# Altium footprint library Smart Humidifier.PcbLib: 30 footprints (part 2 of 2)
Each footprint in its own frame and in the unit in brackets; x right, y up, seen from the top. Pads: shape width x height; smd on the part's side, far side on the other; paste and mask are expansions set on the pad; w line width, h text height; cw(c..) or ccw(c..) is an arc to the next point about the centre after c.
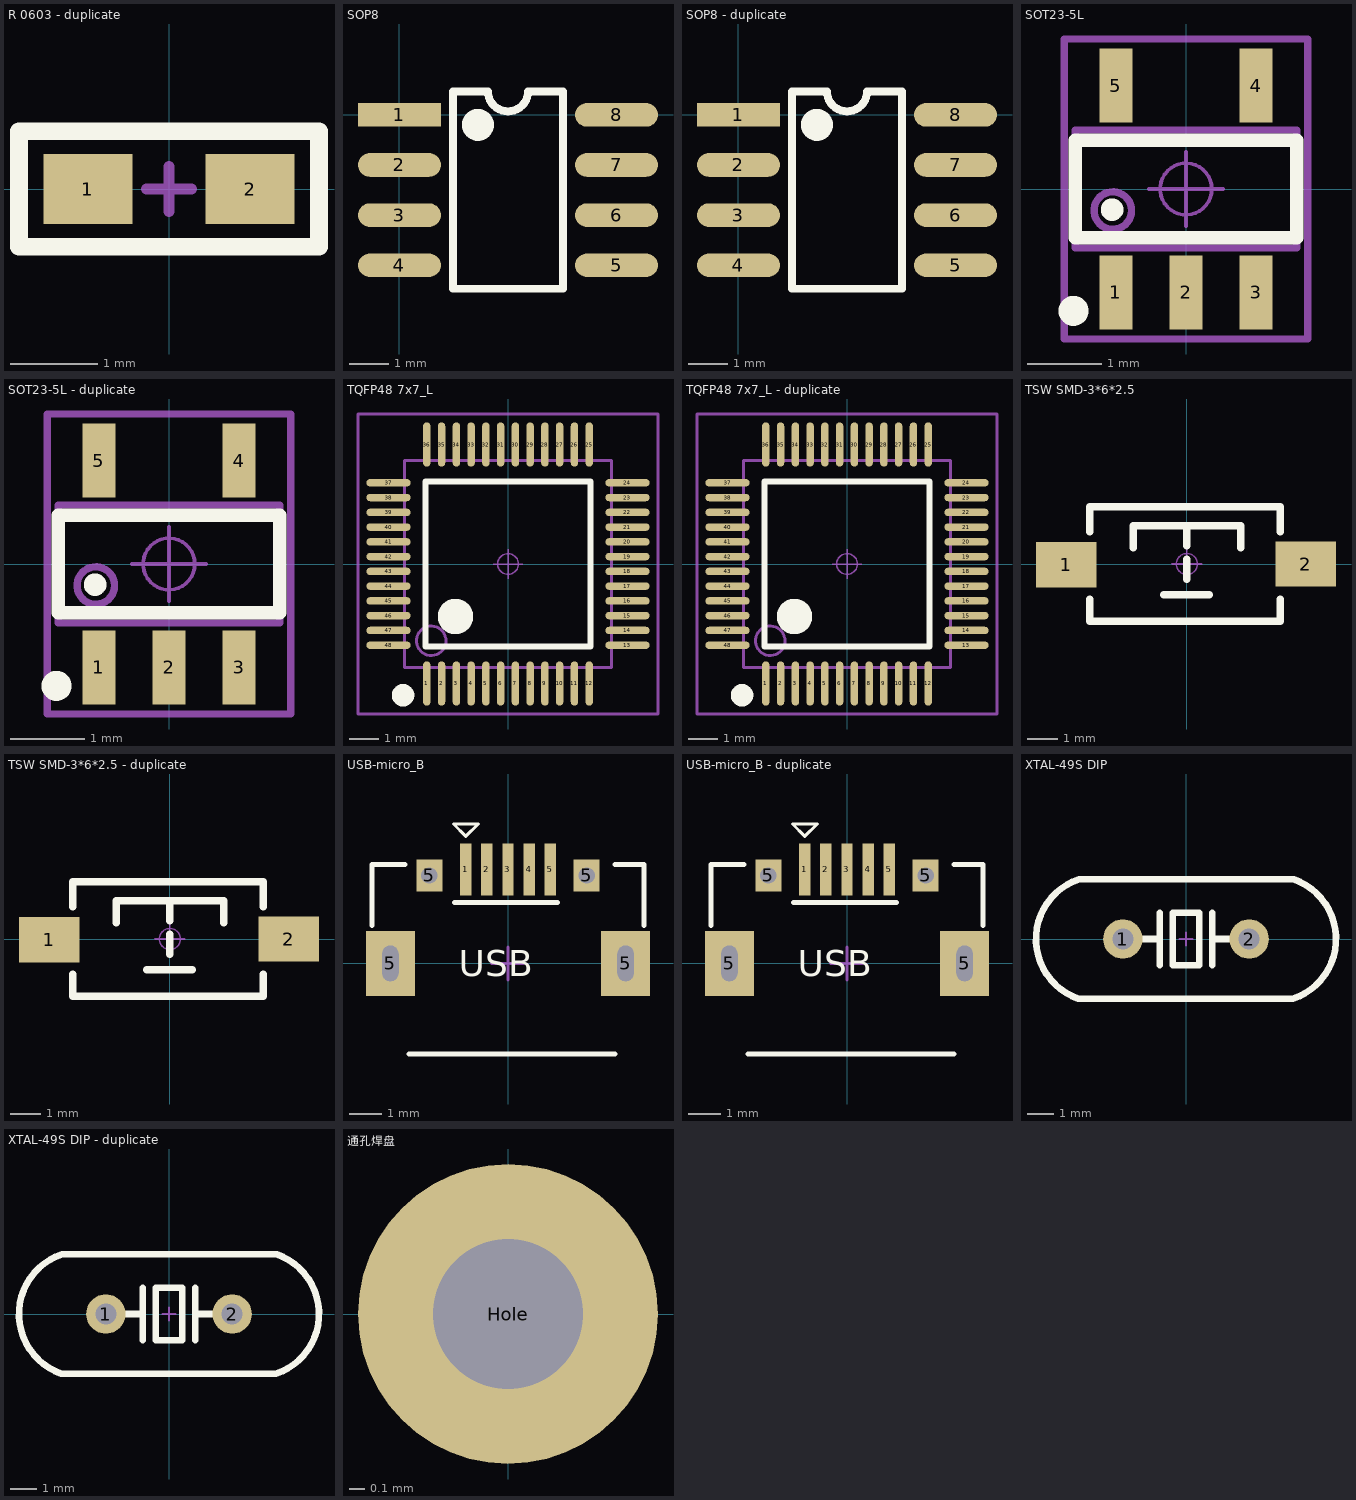
[diagram p1: the footprints below, top view; thin cyan lines are the x and y axes]

## R 0603 - duplicate [mil]
pads (2):
  rect 40x31.5 smd: 1(-36.5,0) 2(36.5,0)
Top Overlay:
  lines w8: -67.5,-26 67.5,-26 67.5,26 -67.5,26 -67.5,-26
Mechanical 15:
  lines w5: -10,0 10,0 ; 0,-10 0,10
3D body "R 0603.STEP": height 15.79, standoff -0.13, extent -31.5,-15.75 31.5,15.75

## SOP8 [mm]
pads (8):
  rect 2.1x0.6 smd: 1(0,0)
  oval 2.1x0.6 smd: 2(0,-1.27) 3(0,-2.54) 4(0,-3.81) 5(5.5,-3.81) 6(5.5,-2.54) 7(5.5,-1.27) 8(5.5,0)
Top Overlay:
  circle w0.5: c1.988,-0.254 r0.155
  lines w0.2: 1.353,0.595 1.353,-4.405 4.147,-4.405 4.147,0.595
  lines w0.203: 1.353,0.595 2.242,0.595 ccw(c2.75,0.595) 2.75,0.087 ccw(c2.75,0.595) 3.258,0.595 4.147,0.595
3D body "SOP8.STEP": height 1.9, standoff 0, extent -0.209,-4.445 5.797,0.555

## SOP8 - duplicate [mm]
pads (8):
  rect 2.1x0.6 smd: 1(0,0)
  oval 2.1x0.6 smd: 2(0,-1.27) 3(0,-2.54) 4(0,-3.81) 5(5.5,-3.81) 6(5.5,-2.54) 7(5.5,-1.27) 8(5.5,0)
Top Overlay:
  circle w0.5: c1.988,-0.254 r0.155
  lines w0.2: 1.353,0.595 1.353,-4.405 4.147,-4.405 4.147,0.595
  lines w0.203: 1.353,0.595 2.242,0.595 ccw(c2.75,0.595) 2.75,0.087 ccw(c2.75,0.595) 3.258,0.595 4.147,0.595
3D body "SOP8.STEP": height 1.9, standoff 0, extent -0.209,-4.445 5.797,0.555

## SOT23-5L [mm] "3x1.6x1.1mm(长宽高)"
pads (5):
  rect 0.45x1 smd: 1(-0.95,-1.4) 2(0,-1.4) 3(0.95,-1.4) 4(0.95,1.4) 5(-0.95,1.4)
Top Overlay:
  circle w0.254: c-1.524,-1.651 r0.076
  circle w0.254: c-1.001,-0.279 r0.025
  lines w0.178: -1.5,-0.66 -1.5,0.66 1.5,0.66 1.5,-0.66 -1.5,-0.66
Mechanical 13:
  circle w0.1: c-0.992,-0.292 r0.254
  lines w0.1: -1.5,-0.8 1.5,-0.8 1.5,0.8 -1.5,0.8 -1.5,-0.8
Mechanical 15:
  circle w0.05: c0,0 r0.35
  lines w0.05: -0.5,0 0.5,0 ; 0,-0.5 0,0.5
  lines w0.1: -1.651,-2.032 1.651,-2.032 1.651,2.032 -1.651,2.032 -1.651,-2.032
3D body "SOT23-5.STEP": height 1.15, standoff -0.03, extent -1.5,-1.403 1.5,1.403

## SOT23-5L - duplicate [mm]
pads (5):
  rect 0.45x1 smd: 1(-0.95,-1.4) 2(0,-1.4) 3(0.95,-1.4) 4(0.95,1.4) 5(-0.95,1.4)
Top Overlay:
  circle w0.254: c-1.001,-0.279 r0.025
  circle w0.254: c-1.524,-1.651 r0.076
  lines w0.178: -1.5,-0.66 1.5,-0.66 1.5,0.66 -1.5,0.66 -1.5,-0.66
Mechanical 13:
  circle w0.1: c-0.992,-0.292 r0.254
  lines w0.1: -1.5,-0.8 -1.5,0.8 1.5,0.8 1.5,-0.8 -1.5,-0.8
Mechanical 15:
  circle w0.05: c0,0 r0.35
  lines w0.05: -0.5,0 0.5,0 ; 0,-0.5 0,0.5
  lines w0.1: -1.651,-2.032 -1.651,2.032 1.651,2.032 1.651,-2.032 -1.651,-2.032
3D body "SOT23-5.STEP": height 1.15, standoff -0.03, extent -1.5,-1.403 1.5,1.403

## TQFP48 7x7_L [mm] "48脚，体宽：7x7mm, 脚距：0.5mm"
height 1.6
pads (48):
  oval 0.25x1.5 smd: 1(-2.75,-4.046) 2(-2.25,-4.046) 3(-1.75,-4.046) 4(-1.25,-4.046) 5(-0.75,-4.046) 6(-0.25,-4.046) 7(0.25,-4.046) 8(0.75,-4.046) 9(1.25,-4.046) 10(1.75,-4.046) 11(2.25,-4.046) 12(2.75,-4.046) 25(2.75,4.046) 26(2.25,4.046) 27(1.75,4.046) 28(1.25,4.046) 29(0.75,4.046) 30(0.25,4.046) 31(-0.25,4.046) 32(-0.75,4.046) 33(-1.25,4.046) 34(-1.75,4.046) 35(-2.25,4.046) 36(-2.75,4.046)
  oval 1.5x0.25 smd: 13(4.046,-2.75) 14(4.046,-2.25) 15(4.046,-1.75) 16(4.046,-1.25) 17(4.046,-0.75) 18(4.046,-0.25) 19(4.046,0.25) 20(4.046,0.75) 21(4.046,1.25) 22(4.046,1.75) 23(4.046,2.25) 24(4.046,2.75) 37(-4.046,2.75) 38(-4.046,2.25) 39(-4.046,1.75) 40(-4.046,1.25) 41(-4.046,0.75) 42(-4.046,0.25) 43(-4.046,-0.25) 44(-4.046,-0.75) 45(-4.046,-1.25) 46(-4.046,-1.75) 47(-4.046,-2.25) 48(-4.046,-2.75)
Top Overlay:
  circle w0.6: c-1.778,-1.778 r0.3
  circle w0.508: c-3.556,-4.445 r0.127
  lines w0.2: -2.794,-2.794 2.794,-2.794 2.794,2.794 -2.794,2.794 -2.794,-2.794
Mechanical 13:
  circle w0.1: c-2.6,-2.6 r0.5
  lines w0.1: -3.5,-3.5 3.5,-3.5 3.5,3.5 -3.5,3.5 -3.5,-3.5
Mechanical 15:
  circle w0.05: c0,0 r0.35
  lines w0.05: -0.5,0 0.5,0 ; 0,-0.5 0,0.5
  lines w0.1: -5.08,-5.08 5.08,-5.08 5.08,5.08 -5.08,5.08 -5.08,-5.08
3D body "TQFP48 7x7.STEP": height 1.05, standoff 0, extent -4.502,-4.502 4.502,4.502

## TQFP48 7x7_L - duplicate [mm]
pads (48):
  oval 0.25x1.5 smd: 1(-2.75,-4.046) 2(-2.25,-4.046) 3(-1.75,-4.046) 4(-1.25,-4.046) 5(-0.75,-4.046) 6(-0.25,-4.046) 7(0.25,-4.046) 8(0.75,-4.046) 9(1.25,-4.046) 10(1.75,-4.046) 11(2.25,-4.046) 12(2.75,-4.046) 25(2.75,4.046) 26(2.25,4.046) 27(1.75,4.046) 28(1.25,4.046) 29(0.75,4.046) 30(0.25,4.046) 31(-0.25,4.046) 32(-0.75,4.046) 33(-1.25,4.046) 34(-1.75,4.046) 35(-2.25,4.046) 36(-2.75,4.046)
  oval 1.5x0.25 smd: 13(4.046,-2.75) 14(4.046,-2.25) 15(4.046,-1.75) 16(4.046,-1.25) 17(4.046,-0.75) 18(4.046,-0.25) 19(4.046,0.25) 20(4.046,0.75) 21(4.046,1.25) 22(4.046,1.75) 23(4.046,2.25) 24(4.046,2.75) 37(-4.046,2.75) 38(-4.046,2.25) 39(-4.046,1.75) 40(-4.046,1.25) 41(-4.046,0.75) 42(-4.046,0.25) 43(-4.046,-0.25) 44(-4.046,-0.75) 45(-4.046,-1.25) 46(-4.046,-1.75) 47(-4.046,-2.25) 48(-4.046,-2.75)
Top Overlay:
  circle w0.508: c-3.556,-4.445 r0.127
  circle w0.6: c-1.778,-1.778 r0.3
  lines w0.2: -2.794,-2.794 -2.794,2.794 2.794,2.794 2.794,-2.794 -2.794,-2.794
Mechanical 13:
  circle w0.1: c-2.6,-2.6 r0.5
  lines w0.1: -3.5,-3.5 -3.5,3.5 3.5,3.5 3.5,-3.5 -3.5,-3.5
Mechanical 15:
  circle w0.05: c0,0 r0.35
  lines w0.05: -0.5,0 0.5,0 ; 0,-0.5 0,0.5
  lines w0.1: -5.08,-5.08 -5.08,5.08 5.08,5.08 5.08,-5.08 -5.08,-5.08
3D body "TQFP48 7x7.STEP": height 1.05, standoff 0, extent -4.502,-4.502 4.502,4.502

## TSW SMD-3*6*2.5 [mm] "3*6*2.5mm"
pads (2):
  rect 2x1.5 smd: 1(-3.996,-0.02) 2(3.937,0)
Top Overlay:
  lines w0.254: -3.212,-1.168 -3.212,-1.9 3.088,-1.9 3.088,-1.168 ; -3.212,1.067 -3.212,1.9 3.088,1.9 3.088,1.067 ; -1.778,0.533 -1.778,1.27 1.778,1.27 1.778,0.533 ; -0.762,-1.016 0.737,-1.016 ; 0,-0.508 0,0.152 ; 0,0.61 0,1.27
Mechanical 15:
  circle w0.05: c0,0 r0.35
  lines w0.05: -0.5,0 0.5,0 ; 0,-0.5 0,0.5
3D body "TSW SMD-3x6x2.5.STEP": height 2.59, standoff -0.03, extent -4,-1.877 4,1.623

## TSW SMD-3*6*2.5 - duplicate [mm]
pads (2):
  rect 2x1.5 smd: 1(-3.996,-0.02) 2(3.937,0)
Top Overlay:
  lines w0.254: -3.212,-1.168 -3.212,-1.9 3.088,-1.9 3.088,-1.168 ; -3.212,1.067 -3.212,1.9 3.088,1.9 3.088,1.067 ; -1.778,0.533 -1.778,1.27 1.778,1.27 1.778,0.533 ; -0.762,-1.016 0.737,-1.016 ; 0,-0.508 0,0.152 ; 0,0.61 0,1.27
Mechanical 15:
  circle w0.05: c0,0 r0.35
  lines w0.05: -0.5,0 0.5,0 ; 0,-0.5 0,0.5
3D body "TSW SMD-3x6x2.5.STEP": height 2.59, standoff -0.03, extent -4,-1.877 4,1.623

## USB-micro_B [mm] "micro型USB ，5.7*7.8*2.5mm"
pads (9):
  rect 0.35x1.6 smd: 1(-1.3,2.9) 2(-0.65,2.9) 3(0,2.9) 4(0.65,2.9) 5(1.3,2.9)
  rect 1.5x2 hole 0.5 slot 1.1 at 90 deg: 5(-3.625,0) 5(3.625,0)
  rect 0.8x1 hole 0.5: 5(-2.425,2.71) 5(2.425,2.71)
Top Overlay:
  lines w0.1: -1.681,4.297 -0.919,4.297 -1.3,3.916 -1.681,4.297
  lines w0.152: -4.191,1.168 -4.191,3.048 -3.175,3.048 ; -3.048,-2.794 3.302,-2.794 ; -1.65,1.875 1.525,1.875 ; 3.302,3.048 4.191,3.048 4.191,1.168
  text "USB" at -1.524,-0.402 h0.81
Mechanical 15:
  lines w0.1: -0.508,0 0.508,0 ; 0,-0.508 0,0.508
3D body "USB micro_A.STEP": height 2.8, standoff -0.95, extent -4.001,-2.71 4.001,2.89

## USB-micro_B - duplicate [mm]
pads (9):
  rect 0.35x1.6 smd: 1(-1.3,2.9) 2(-0.65,2.9) 3(0,2.9) 4(0.65,2.9) 5(1.3,2.9)
  rect 1.5x2 hole 0.5 slot 1.1 at 90 deg: 5(-3.625,0) 5(3.625,0)
  rect 0.8x1 hole 0.5: 5(-2.425,2.71) 5(2.425,2.71)
Top Overlay:
  lines w0.1: -1.681,4.297 -0.919,4.297 -1.3,3.916 -1.681,4.297
  lines w0.152: -4.191,1.168 -4.191,3.048 -3.175,3.048 ; -3.048,-2.794 3.302,-2.794 ; -1.65,1.875 1.525,1.875 ; 3.302,3.048 4.191,3.048 4.191,1.168
  text "USB" at -1.524,-0.402 h0.81
Mechanical 15:
  lines w0.1: -0.508,0 0.508,0 ; 0,-0.508 0,0.508
3D body "USB micro_A.STEP": height 2.8, standoff -0.95, extent -4.001,-2.71 4.001,2.89

## XTAL-49S DIP [mm]
pads (2):
  round 1.5 hole 0.8: 1(-2.4,0) 2(2.4,0)
Top Overlay:
  lines w0.254: -4.09,-2.275 4.059,-2.275 ccw(c3.298,0.003) 4.09,2.271 ; -4.09,-2.271 cw(c-3.298,-0.003) -4.059,2.275 4.09,2.275 ; -1.6,0 -1,0 ; -1,-1 -1,1 ; 1,-1 1,1 ; 1,0 1.6,0 ; -0.5,-1 -0.5,1 0.5,1 0.5,-1 -0.5,-1
Mechanical 15:
  lines w0.076: -0.254,0 0.254,0 ; 0,-0.254 0,0.254
3D body "SW3dPS-HP49US.STEP": height 3.5, standoff -4, extent -5.675,-2.35 5.675,2.3

## XTAL-49S DIP - duplicate [mm]
pads (2):
  round 1.5 hole 0.8: 1(-2.4,0) 2(2.4,0)
Top Overlay:
  lines w0.254: -4.09,-2.275 4.059,-2.275 ccw(c3.298,0.003) 4.09,2.271 ; -4.09,-2.271 cw(c-3.298,-0.003) -4.059,2.275 4.09,2.275 ; -1.6,0 -1,0 ; -1,-1 -1,1 ; 1,-1 1,1 ; 1,0 1.6,0 ; -0.5,-1 -0.5,1 0.5,1 0.5,-1 -0.5,-1
Mechanical 15:
  lines w0.076: -0.254,0 0.254,0 ; 0,-0.254 0,0.254
3D body "SW3dPS-HP49US.STEP": height 3.5, standoff -4, extent -5.675,-2.35 5.675,2.3

## 通孔焊盘 [mm]
pads (1):
  round 2 hole 1: Hole(0,0)